# Altium footprint library CMS-1.PcbLib: 1 footprints
Each footprint in its own frame and in the unit in brackets; x right, y up, seen from the top. Pads: shape width x height; smd on the part's side, far side on the other; paste and mask are expansions set on the pad; w line width, h text height; cw(c..) or ccw(c..) is an arc to the next point about the centre after c.
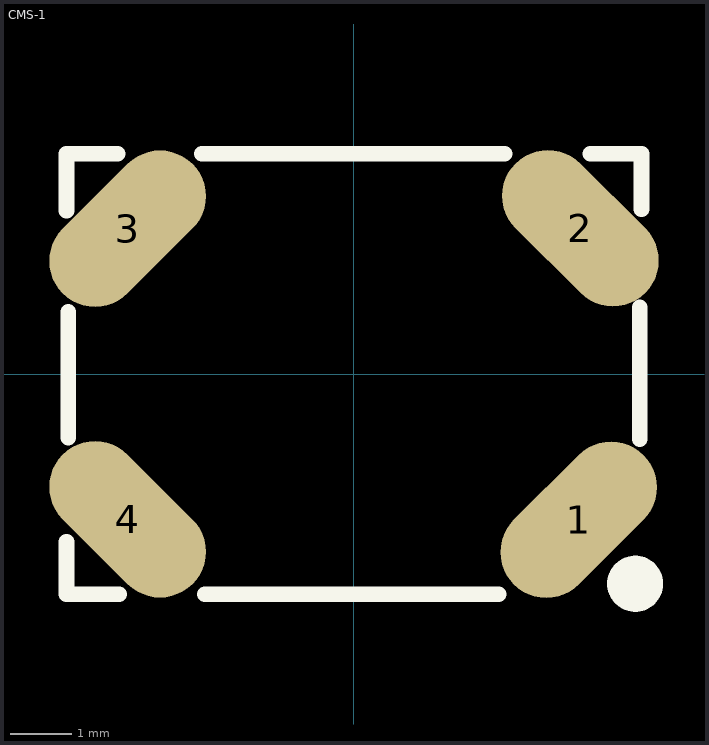
[diagram p0: the footprint, top view; thin cyan lines are the x and y axes]

## CMS-1 [mm]
height 2.6
pads (4):
  oval 3x1.5 smd rot 45: 1(3.673,-2.383) 3(-3.702,2.376)
  oval 1.5x3 smd rot 45: 2(3.702,2.383)
  oval 3x1.5 smd rot 135: 4(-3.702,-2.376)
TopOverlay:
  circle w0.457: c4.596,-3.429 r0.23
  lines w0.254: -4.7,-2.742 -4.7,-3.6 -3.835,-3.6 ; -4.7,2.668 -4.7,3.6 -3.861,3.6 ; -4.674,-1.041 -4.674,1.016 ; -2.489,3.6 2.464,3.6 ; -2.438,-3.6 2.362,-3.6 ; 3.861,3.6 4.7,3.6 4.7,2.691 ; 4.674,-1.067 4.674,1.092